# Altium footprint library 64372885.PcbLib: 1 footprints
Each footprint in its own frame and in the unit in brackets; x right, y up, seen from the top. Pads: shape width x height; smd on the part's side, far side on the other; paste and mask are expansions set on the pad; w line width, h text height; cw(c..) or ccw(c..) is an arc to the next point about the centre after c.
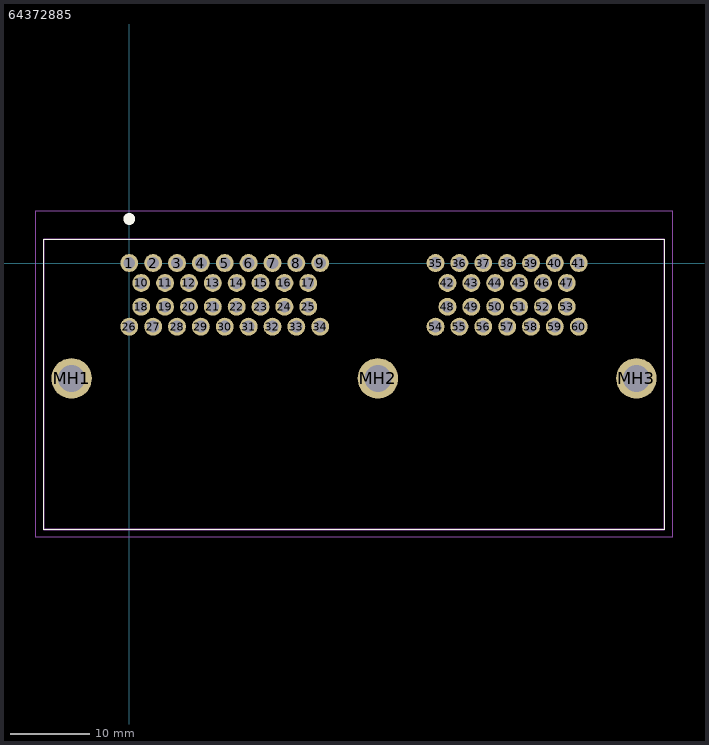
[diagram p0: the footprint, top view; thin cyan lines are the x and y axes]

## 64372885 [mm]
pads (63):
  round 2.25 hole 1.5: 1(0,0) 2(3,0) 3(6,0) 4(9,0) 5(12,0) 6(15,0) 7(18,0) 8(21,0) 9(24,0) 10(1.5,-2.5) 11(4.5,-2.5) 12(7.5,-2.5) 13(10.5,-2.5) 14(13.5,-2.5) 15(16.5,-2.5) 16(19.5,-2.5) 17(22.5,-2.5) 18(1.5,-5.5) 19(4.5,-5.5) 20(7.5,-5.5) 21(10.5,-5.5) 22(13.5,-5.5) 23(16.5,-5.5) 24(19.5,-5.5) 25(22.5,-5.5) 26(0,-8) 27(3,-8) 28(6,-8) 29(9,-8) 30(12,-8) 31(15,-8) 32(18,-8) 33(21,-8) 34(24,-8) 35(38.5,0) 36(41.5,0) 37(44.5,0) 38(47.5,0) 39(50.5,0) 40(53.5,0) 41(56.5,0) 42(40,-2.5) 43(43,-2.5) 44(46,-2.5) 45(49,-2.5) 46(52,-2.5) 47(55,-2.5) 48(40,-5.5) 49(43,-5.5) 50(46,-5.5) 51(49,-5.5) 52(52,-5.5) 53(55,-5.5) 54(38.5,-8) 55(41.5,-8) 56(44.5,-8) 57(47.5,-8) 58(50.5,-8) 59(53.5,-8) 60(56.5,-8)
  round 5.1 hole 3.4: MH1(-7.25,-14.5) MH2(31.25,-14.5) MH3(63.75,-14.5)
Top Overlay:
  lines w0.1: -10.75,-33.5 67.25,-33.5 67.25,3 -10.75,3 -10.75,-33.5
  lines w1.4: 0,5.5 cw(c0,5.55) 0,5.6 ; 0,5.5 0,5.5 ; 0,5.5 ccw(c0,5.55) 0,5.6 ; 0,5.6 0,5.6
Mechanical 15:
  lines w0.2: -10.75,-33.5 67.25,-33.5 67.25,3 -10.75,3 -10.75,-33.5
Mechanical 20:
  lines w0.1: -11.75,-34.5 68.25,-34.5 68.25,6.6 -11.75,6.6 -11.75,-34.5